# Altium integrated library K553UD2.IntLib: 1 symbol
Pins are listed as number, name and electrical type; pins without a type are passive.

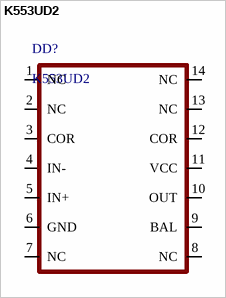
[diagram p0: symbol K553UD2]

## K553UD2
designator DD?
footprint DIP14
pins: 1 NC, 2 NC, 3 COR, 4 IN-, 5 IN+, 6 GND, 7 NC, 8 NC, 9 BAL, 10 OUT, 11 VCC, 12 COR, 13 NC, 14 NC